# Altium schematic symbol library supply1.SCHLIB: 2 symbols
Pins are listed as number, name and electrical type; pins without a type are passive.

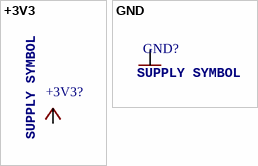
[diagram p0: symbols +3V3 to GND]

## +3V3
designator +3V3?, comment SUPPLY SYMBOL
pins: ?1 +3V3 (oe)

## GND
designator GND?, comment SUPPLY SYMBOL
pins: ?1 GND (oe)